# EAGLE library part 691317710006 (library Wurth_Terminal_Blocks_Connectors_rev15d)
WR-TBL Serie 3177 - 5.0mm Close Horizontal PCB Header with Flanges , 6 Pins=>Code : Con_TBL_Pluggable_5.00_PCB_H_691317710006 <http://katalog.we-online.de/media/images/eican/Con_TBL_Pluggable_5.00_PCB_H_6913177100xx_pf2.jpg> Details see: http://katalog.we-online.de/en/em/691_317_710_0xx Created 2014-06-20, Karrer Zheng 2014 (C) Würth Elektronik
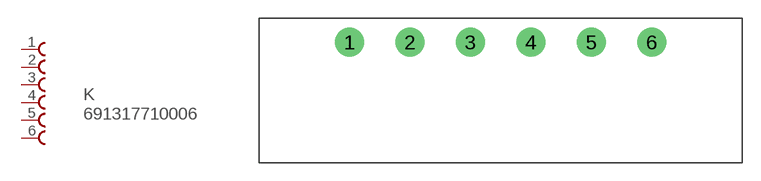
[diagram p70: symbol with the pads of 691317710006; footprint 691317710006]

Designator prefix K

## 691317710006  [691317710006]
1  1  pas
2  2  pas
3  3  pas
4  4  pas
5  5  pas
6  6  pas

## Footprint 691317710006 (pad centres in mm)
WR-TBL Serie 3177 - 5.0mm Close Horizontal PCB Header with Flanges , 6 Pins
drill 1.6: 1 -15,0; 2 -10,0; 3 -5,0; 4 0,0; 5 5,0; 6 10,0